# EAGLE library part USB-MICROB-M2 (library neopixelwordclock)
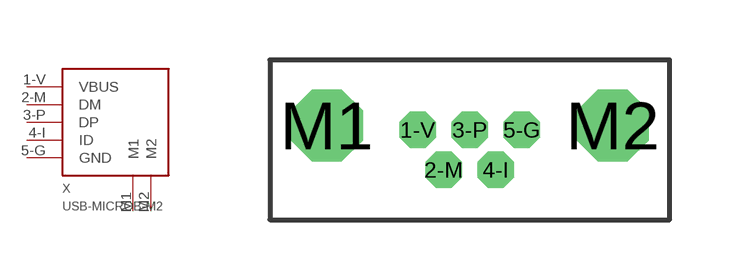
[diagram p6: symbol with the pads of USBMICROBVERT-USB3145; footprint USBMICROBVERT-USB3145]

Designator prefix X

## USB-MICROB-M2-USB3145  [USBMICROBVERT-USB3145]
1-V  VBUS
2-M  DM
3-P  DP
4-I  ID
5-G  GND
M1  M1
M2  M2

## Footprint USBMICROBVERT-USB3145 (pad centres in mm)
drill 0.4 pad 0.8 octagon: 1-V -1.3,0.25; 2-M -0.65,-0.75; 3-P 0,0.25; 4-I 0.65,-0.75; 5-G 1.3,0.25
drill 1.2 octagon: M1 -3.575,0.36; M2 3.575,0.36